# Altium integrated library EVP-AWCD4A.IntLib: 1 symbol
Pins are listed as number, name and electrical type; pins without a type are passive.

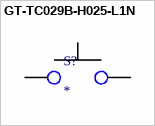
[diagram p0: symbol GT-TC029B-H025-L1N]

## GT-TC029B-H025-L1N
designator S?
JLC Supplied: 50mA 3.9mm 100MΩ 100,000 Times 12V 250gf 2.9mm 2.5mm Round Button; MP: EVP-AWCD4A; Package: None; Price: None; Value: *; Availability: Unavailable
footprint SW_EVP-AWCD4A
pins: 1, 2